# Altium footprint library PLCC.PcbLib: 1 footprints
Each footprint in its own frame and in the unit in brackets; x right, y up, seen from the top. Pads: shape width x height; smd on the part's side, far side on the other; paste and mask are expansions set on the pad; w line width, h text height; cw(c..) or ccw(c..) is an arc to the next point about the centre after c.
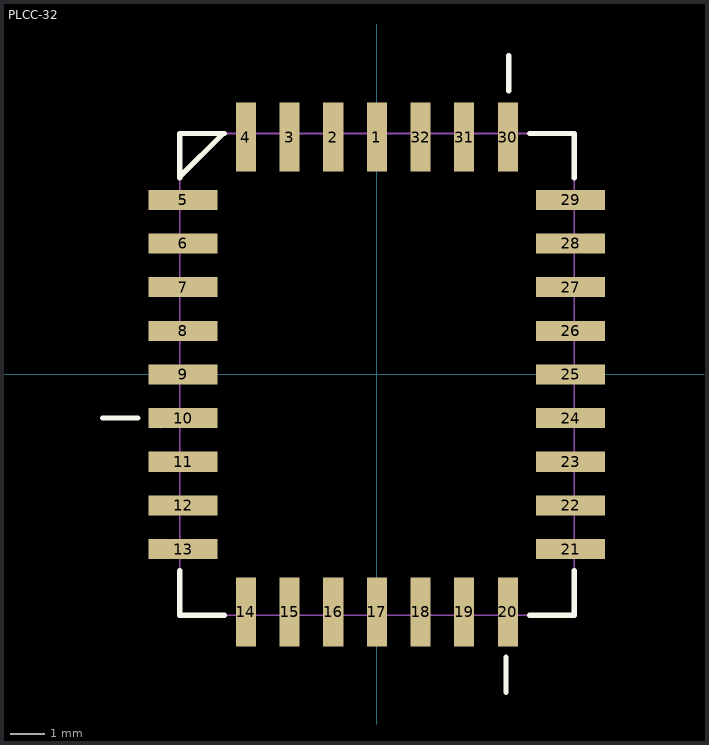
[diagram p0: the footprint, top view; thin cyan lines are the x and y axes]

## PLCC-32 [mil]
pads (32):
  rect 23x79 smd: 1(0,272) 2(-50,272) 3(-100,272) 4(-150,272) 14(-150,-272) 15(-100,-272) 16(-50,-272) 17(0,-272) 18(50,-272) 19(100,-272) 20(150,-272) 30(150,272) 31(100,272) 32(50,272)
  rect 79x23 smd: 5(-222,200) 6(-222,150) 7(-222,100) 8(-222,50) 9(-222,0) 10(-222,-50) 11(-222,-100) 12(-222,-150) 13(-222,-200) 21(222,-200) 22(222,-150) 23(222,-100) 24(222,-50) 25(222,0) 26(222,50) 27(222,100) 28(222,150) 29(222,200)
Top Overlay:
  lines w6: -314,-50 -274,-50 ; -226,-225 -226,-276 -175,-276 ; -226,225 -226,226 ; -175,276 -176,276 ; 148,-364 148,-324 ; 151,325 151,365 ; 175,-276 226,-276 226,-225 ; 175,276 226,276 226,225 ; -226,226 -226,276 -176,276 ; -226,226 -176,276
Top Component Outline:
  drawing of 171 lines, arcs and shapes, not listed
3D body "SST39VF010-70-4I-NHE.stp": height 124.69, standoff -0.02, extent -252.48,-294.66 237.52,295.65